# Altium footprint library QFP.PcbLib: 9 footprints
Each footprint in its own frame and in the unit in brackets; x right, y up, seen from the top. Pads: shape width x height; smd on the part's side, far side on the other; paste and mask are expansions set on the pad; w line width, h text height; cw(c..) or ccw(c..) is an arc to the next point about the centre after c.
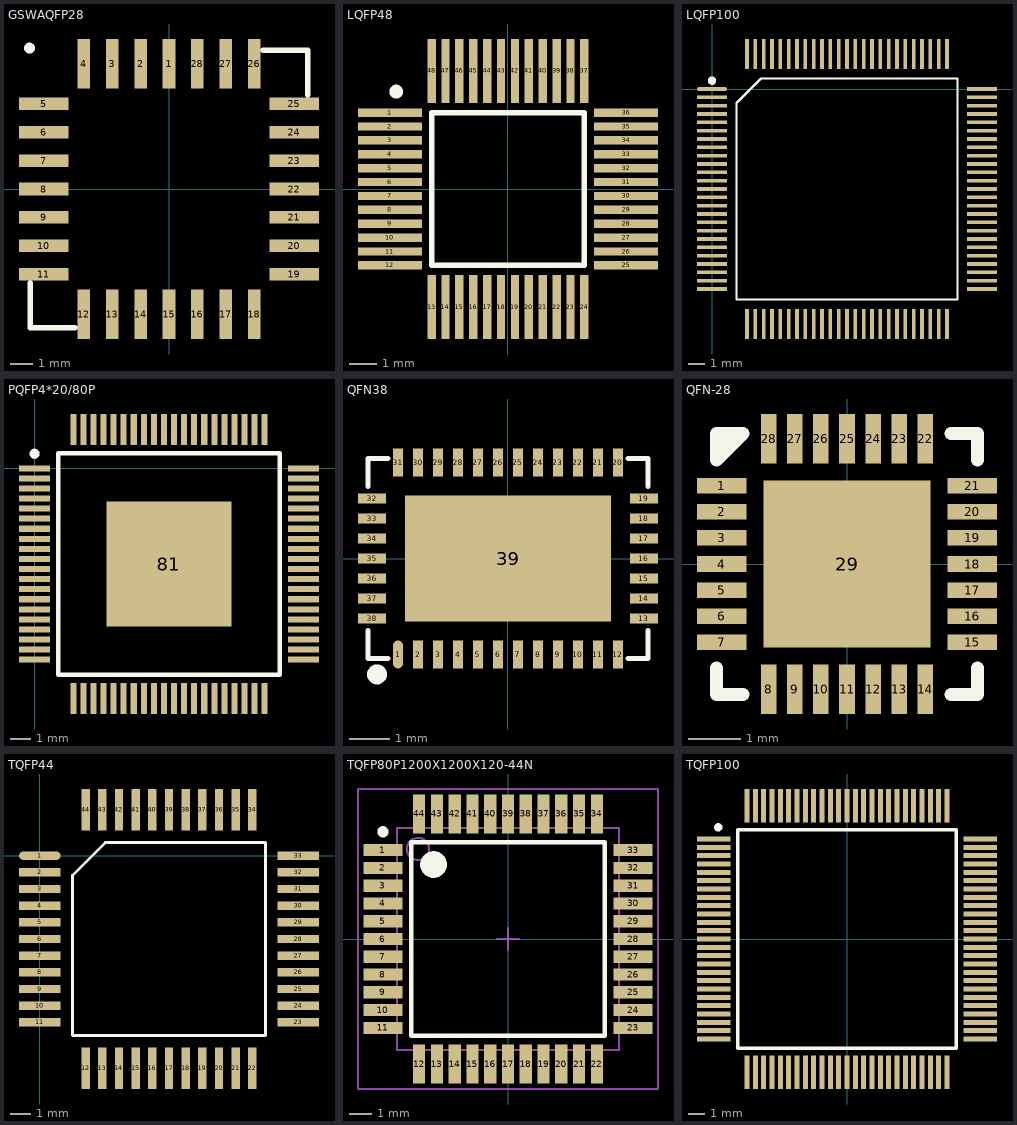
[diagram p0: the footprints below, top view; thin cyan lines are the x and y axes]

## GSWAQFP28 [mm] "FOOTPRINT for GSWA-4-30DR"
height 1.55
pads (28):
  rect 0.56x2.21 smd: 1(0,5.6) 2(-1.27,5.6) 3(-2.54,5.6) 4(-3.81,5.6) 12(-3.81,-5.6) 13(-2.54,-5.6) 14(-1.27,-5.6) 15(0,-5.6) 16(1.27,-5.6) 17(2.54,-5.6) 18(3.81,-5.6) 26(3.81,5.6) 27(2.54,5.6) 28(1.27,5.6)
  rect 2.21x0.56 smd: 5(-5.6,3.81) 6(-5.6,2.54) 7(-5.6,1.27) 8(-5.6,0) 9(-5.6,-1.27) 10(-5.6,-2.54) 11(-5.6,-3.81) 19(5.6,-3.81) 20(5.6,-2.54) 21(5.6,-1.27) 22(5.6,0) 23(5.6,1.27) 24(5.6,2.54) 25(5.6,3.81)
Top Overlay:
  circle w0.254: c-6.235,6.299 r0.114
  lines w0.254: -6.2,-4.2 -6.2,-6.2 -4.2,-6.2 ; 4.2,6.2 6.2,6.2 6.2,4.2

## LQFP48 [mm] "For LM3S308"
height 1.6
pads (48):
  rect 2.3x0.3 smd: 1(-4.25,2.75) 2(-4.25,2.25) 3(-4.25,1.75) 4(-4.25,1.25) 5(-4.25,0.75) 6(-4.25,0.25) 7(-4.25,-0.25) 8(-4.25,-0.75) 9(-4.25,-1.25) 10(-4.25,-1.75) 11(-4.25,-2.25) 12(-4.25,-2.75) 25(4.25,-2.75) 26(4.25,-2.25) 27(4.25,-1.75) 28(4.25,-1.25) 29(4.25,-0.75) 30(4.25,-0.25) 31(4.25,0.25) 32(4.25,0.75) 33(4.25,1.25) 34(4.25,1.75) 35(4.25,2.25) 36(4.25,2.75)
  rect 0.3x2.3 smd: 13(-2.75,-4.25) 14(-2.25,-4.25) 15(-1.75,-4.25) 16(-1.25,-4.25) 17(-0.75,-4.25) 18(-0.25,-4.25) 19(0.25,-4.25) 20(0.75,-4.25) 21(1.25,-4.25) 22(1.75,-4.25) 23(2.25,-4.25) 24(2.75,-4.25) 37(2.75,4.25) 38(2.25,4.25) 39(1.75,4.25) 40(1.25,4.25) 41(0.75,4.25) 42(0.25,4.25) 43(-0.25,4.25) 44(-0.75,4.25) 45(-1.25,4.25) 46(-1.75,4.25) 47(-2.25,4.25) 48(-2.75,4.25)
Top Overlay:
  circle w0.25: c-4.025,3.505 r0.125
  lines w0.2: -2.75,-2.75 2.75,-2.75 2.75,2.75 -2.75,2.75 -2.75,-2.75

## LQFP100 [mm] "For LM3S3739"
height 1.6
pads (100):
  oval 1.8x0.22 smd: 1(0,0)
  rect 1.8x0.22 smd: 2(0,-0.5) 3(0,-1) 4(0,-1.5) 5(0,-2) 6(0,-2.5) 7(0,-3) 8(0,-3.5) 9(0,-4) 10(0,-4.5) 11(0,-5) 12(0,-5.5) 13(0,-6) 14(0,-6.5) 15(0,-7) 16(0,-7.5) 17(0,-8) 18(0,-8.5) 19(0,-9) 20(0,-9.5) 21(0,-10) 22(0,-10.5) 23(0,-11) 24(0,-11.5) 25(0,-12) 51(16.2,-12) 52(16.2,-11.5) 53(16.2,-11) 54(16.2,-10.5) 55(16.2,-10) 56(16.2,-9.5) 57(16.2,-9) 58(16.2,-8.5) 59(16.2,-8) 60(16.2,-7.5) 61(16.2,-7) 62(16.2,-6.5) 63(16.2,-6) 64(16.2,-5.5) 65(16.2,-5) 66(16.2,-4.5) 67(16.2,-4) 68(16.2,-3.5) 69(16.2,-3) 70(16.2,-2.5) 71(16.2,-2) 72(16.2,-1.5) 73(16.2,-1) 74(16.2,-0.5) 75(16.2,0)
  rect 0.22x1.8 smd: 26(2.1,-14.1) 27(2.6,-14.1) 28(3.1,-14.1) 29(3.6,-14.1) 30(4.1,-14.1) 31(4.6,-14.1) 32(5.1,-14.1) 33(5.6,-14.1) 34(6.1,-14.1) 35(6.6,-14.1) 36(7.1,-14.1) 37(7.6,-14.1) 38(8.1,-14.1) 39(8.6,-14.1) 40(9.1,-14.1) 41(9.6,-14.1) 42(10.1,-14.1) 43(10.6,-14.1) 44(11.1,-14.1) 45(11.6,-14.1) 46(12.1,-14.1) 47(12.6,-14.1) 48(13.1,-14.1) 49(13.6,-14.1) 50(14.1,-14.1) 76(14.1,2.1) 77(13.6,2.1) 78(13.1,2.1) 79(12.6,2.1) 80(12.1,2.1) 81(11.6,2.1) 82(11.1,2.1) 83(10.6,2.1) 84(10.1,2.1) 85(9.6,2.1) 86(9.1,2.1) 87(8.6,2.1) 88(8.1,2.1) 89(7.6,2.1) 90(7.1,2.1) 91(6.6,2.1) 92(6.1,2.1) 93(5.6,2.1) 94(5.1,2.1) 95(4.6,2.1) 96(4.1,2.1) 97(3.6,2.1) 98(3.1,2.1) 99(2.6,2.1) 100(2.1,2.1)
Top Overlay:
  circle w0.25: c0,0.5 r0.125
  lines w0.127: 1.471,-12.628 1.471,-0.843 2.943,0.629 14.728,0.629 14.728,-12.628 1.471,-12.628

## PQFP4*20/80P [mm] "FOR TVP5146"
height 0.027
pads (81):
  rect 1.55x0.3 smd: 1(0,0) 2(0,-0.5) 3(0,-1) 4(0,-1.5) 5(0,-2) 6(0,-2.5) 7(0,-3) 8(0,-3.5) 9(0,-4) 10(0,-4.5) 11(0,-5) 12(0,-5.5) 13(0,-6) 14(0,-6.5) 15(0,-7) 16(0,-7.5) 17(0,-8) 18(0,-8.5) 19(0,-9) 20(0,-9.5) 41(13.35,-9.5) 42(13.35,-9) 43(13.35,-8.5) 44(13.35,-8) 45(13.35,-7.5) 46(13.35,-7) 47(13.35,-6.5) 48(13.35,-6) 49(13.35,-5.5) 50(13.35,-5) 51(13.35,-4.5) 52(13.35,-4) 53(13.35,-3.5) 54(13.35,-3) 55(13.35,-2.5) 56(13.35,-2) 57(13.35,-1.5) 58(13.35,-1) 59(13.35,-0.5) 60(13.35,0)
  rect 0.3x1.55 smd: 21(1.925,-11.425) 22(2.425,-11.425) 23(2.925,-11.425) 24(3.425,-11.425) 25(3.925,-11.425) 26(4.425,-11.425) 27(4.925,-11.425) 28(5.425,-11.425) 29(5.925,-11.425) 30(6.425,-11.425) 31(6.925,-11.425) 32(7.425,-11.425) 33(7.925,-11.425) 34(8.425,-11.425) 35(8.925,-11.425) 36(9.425,-11.425) 37(9.925,-11.425) 38(10.425,-11.425) 39(10.925,-11.425) 40(11.425,-11.425) 61(11.425,1.925) 62(10.925,1.925) 63(10.425,1.925) 64(9.925,1.925) 65(9.425,1.925) 66(8.925,1.925) 67(8.425,1.925) 68(7.925,1.925) 69(7.425,1.925) 70(6.925,1.925) 71(6.425,1.925) 72(5.925,1.925) 73(5.425,1.925) 74(4.925,1.925) 75(4.425,1.925) 76(3.925,1.925) 77(3.425,1.925) 78(2.925,1.925) 79(2.425,1.925) 80(1.925,1.925)
  rect 6.2x6.2 smd: 81(6.675,-4.75)
Top Overlay:
  circle w0.25: c0,0.725 r0.125
  lines w0.2: 1.175,-10.25 12.175,-10.25 12.175,0.75 1.175,0.75 1.175,-10.25

## QFN38 [mm] "For LT3507F"
height 0.75
pads (39):
  oval 0.25x0.7 smd: 1(-2.75,-2.4)
  rect 0.25x0.7 smd: 2(-2.25,-2.4) 3(-1.75,-2.4) 4(-1.25,-2.4) 5(-0.75,-2.4) 6(-0.25,-2.4) 7(0.25,-2.4) 8(0.75,-2.4) 9(1.25,-2.4) 10(1.75,-2.4) 11(2.25,-2.4) 12(2.75,-2.4) 20(2.75,2.4) 21(2.25,2.4) 22(1.75,2.4) 23(1.25,2.4) 24(0.75,2.4) 25(0.25,2.4) 26(-0.25,2.4) 27(-0.75,2.4) 28(-1.25,2.4) 29(-1.75,2.4) 30(-2.25,2.4) 31(-2.75,2.4)
  rect 0.7x0.25 smd: 13(3.4,-1.5) 14(3.4,-1) 15(3.4,-0.5) 16(3.4,0) 17(3.4,0.5) 18(3.4,1) 19(3.4,1.5) 32(-3.4,1.5) 33(-3.4,1) 34(-3.4,0.5) 35(-3.4,0) 36(-3.4,-0.5) 37(-3.4,-1) 38(-3.4,-1.5)
  rect 5.15x3.15 smd: 39(0,0)
Top Overlay:
  circle w0.25: c-3.275,-2.896 r0.125
  lines w0.127: -3.5,-1.8 -3.5,-2.5 -3,-2.5 ; -3.5,1.8 -3.5,2.5 -3,2.5 ; 3,-2.5 3.5,-2.5 3.5,-1.8 ; 3,2.5 3.5,2.5 3.5,1.8

## QFN-28 [mm]
height 0.9
pads (29):
  rect 0.95x0.3 smd: 1(-2.4,1.5) 2(-2.4,1) 3(-2.4,0.5) 4(-2.4,0) 5(-2.4,-0.5) 6(-2.4,-1) 7(-2.4,-1.5) 15(2.4,-1.5) 16(2.4,-1) 17(2.4,-0.5) 18(2.4,0) 19(2.4,0.5) 20(2.4,1) 21(2.4,1.5)
  rect 0.3x0.95 smd: 8(-1.5,-2.4) 9(-1,-2.4) 10(-0.5,-2.4) 11(0,-2.4) 12(0.5,-2.4) 13(1,-2.4) 14(1.5,-2.4) 22(1.5,2.4) 23(1,2.4) 24(0.5,2.4) 25(0,2.4) 26(-0.5,2.4) 27(-1,2.4) 28(-1.5,2.4)
  rect 3.2x3.2 smd: 29(0,0)
Top Overlay:
  lines w0.254: -2.5,-2 -2.5,-2.5 -2,-2.5 ; -2.286,2.286 -2.286,2.5 ; 2,-2.5 2.5,-2.5 2.5,-2 ; 2,2.5 2.5,2.5 2.5,2 ; -2.5,2 -2,2.5 -2.5,2.5 -2.5,2

## TQFP44 [mm] "For SOT376-1 NXP"
height 1.2
pads (44):
  oval 2x0.4 smd: 1(0,0)
  rect 2x0.4 smd: 2(0,-0.8) 3(0,-1.6) 4(0,-2.4) 5(0,-3.2) 6(0,-4) 7(0,-4.8) 8(0,-5.6) 9(0,-6.4) 10(0,-7.2) 11(0,-8) 23(12.4,-8) 24(12.4,-7.2) 25(12.4,-6.4) 26(12.4,-5.6) 27(12.4,-4.8) 28(12.4,-4) 29(12.4,-3.2) 30(12.4,-2.4) 31(12.4,-1.6) 32(12.4,-0.8) 33(12.4,0)
  rect 0.4x2 smd: 12(2.2,-10.2) 13(3,-10.2) 14(3.8,-10.2) 15(4.6,-10.2) 16(5.4,-10.2) 17(6.2,-10.2) 18(7,-10.2) 19(7.8,-10.2) 20(8.6,-10.2) 21(9.4,-10.2) 22(10.2,-10.2) 34(10.2,2.2) 35(9.4,2.2) 36(8.6,2.2) 37(7.8,2.2) 38(7,2.2) 39(6.2,2.2) 40(5.4,2.2) 41(4.6,2.2) 42(3.8,2.2) 43(3,2.2) 44(2.2,2.2)
Top Overlay:
  lines w0.127: 1.572,-8.629 10.829,-8.629 10.829,0.629 3.143,0.629 1.572,-0.943 1.572,-8.629

## TQFP80P1200X1200X120-44N [mm] "TQFP, 44-Leads, Body 12.3x12.3mm (max), Pitch 0.80mm, IPC Medium Density"
height 1.2
pads (44):
  rect 1.75x0.55 smd: 1(-5.625,4) 2(-5.625,3.2) 3(-5.625,2.4) 4(-5.625,1.6) 5(-5.625,0.8) 6(-5.625,0) 7(-5.625,-0.8) 8(-5.625,-1.6) 9(-5.625,-2.4) 10(-5.625,-3.2) 11(-5.625,-4) 23(5.625,-4) 24(5.625,-3.2) 25(5.625,-2.4) 26(5.625,-1.6) 27(5.625,-0.8) 28(5.625,0) 29(5.625,0.8) 30(5.625,1.6) 31(5.625,2.4) 32(5.625,3.2) 33(5.625,4)
  rect 0.55x1.75 smd: 12(-4,-5.625) 13(-3.2,-5.625) 14(-2.4,-5.625) 15(-1.6,-5.625) 16(-0.8,-5.625) 17(0,-5.625) 18(0.8,-5.625) 19(1.6,-5.625) 20(2.4,-5.625) 21(3.2,-5.625) 22(4,-5.625) 34(4,5.625) 35(3.2,5.625) 36(2.4,5.625) 37(1.6,5.625) 38(0.8,5.625) 39(0,5.625) 40(-0.8,5.625) 41(-1.6,5.625) 42(-2.4,5.625) 43(-3.2,5.625) 44(-4,5.625)
Top Overlay:
  circle w0.6: c-3.35,3.35 r0.3
  circle w0.25: c-5.625,4.825 r0.125
  lines w0.2: -4.35,-4.35 4.35,-4.35 4.35,4.35 -4.35,4.35 -4.35,-4.35
Mechanical 13:
  circle w0.1: c-4.05,4.05 r0.5
  lines w0.1: -5,-5 5,-5 5,5 -5,5 -5,-5
Mechanical 15:
  lines w0.1: -0.5,0 0.5,0 ; 0,-0.5 0,0.5 ; -6.75,-6.75 6.75,-6.75 6.75,6.75 -6.75,6.75 -6.75,-6.75
3D body: height 1.2, standoff 0.15, extent -5,-5 5,5

## TQFP100 [mm] "FOR EP240"
height 1.2
pads (100):
  rect 2x0.3 smd: 1(-8,6) 2(-8,5.5) 3(-8,5) 4(-8,4.5) 5(-8,4) 6(-8,3.5) 7(-8,3) 8(-8,2.5) 9(-8,2) 10(-8,1.5) 11(-8,1) 12(-8,0.5) 13(-8,0) 14(-8,-0.5) 15(-8,-1) 16(-8,-1.5) 17(-8,-2) 18(-8,-2.5) 19(-8,-3) 20(-8,-3.5) 21(-8,-4) 22(-8,-4.5) 23(-8,-5) 24(-8,-5.5) 25(-8,-6) 51(8,-6) 52(8,-5.5) 53(8,-5) 54(8,-4.5) 55(8,-4) 56(8,-3.5) 57(8,-3) 58(8,-2.5) 59(8,-2) 60(8,-1.5) 61(8,-1) 62(8,-0.5) 63(8,0) 64(8,0.5) 65(8,1) 66(8,1.5) 67(8,2) 68(8,2.5) 69(8,3) 70(8,3.5) 71(8,4) 72(8,4.5) 73(8,5) 74(8,5.5) 75(8,6)
  rect 0.3x2 smd: 26(-6,-8) 27(-5.5,-8) 28(-5,-8) 29(-4.5,-8) 30(-4,-8) 31(-3.5,-8) 32(-3,-8) 33(-2.5,-8) 34(-2,-8) 35(-1.5,-8) 36(-1,-8) 37(-0.5,-8) 38(0,-8) 39(0.5,-8) 40(1,-8) 41(1.5,-8) 42(2,-8) 43(2.5,-8) 44(3,-8) 45(3.5,-8) 46(4,-8) 47(4.5,-8) 48(5,-8) 49(5.5,-8) 50(6,-8) 76(6,8) 77(5.5,8) 78(5,8) 79(4.5,8) 80(4,8) 81(3.5,8) 82(3,8) 83(2.5,8) 84(2,8) 85(1.5,8) 86(1,8) 87(0.5,8) 88(0,8) 89(-0.5,8) 90(-1,8) 91(-1.5,8) 92(-2,8) 93(-2.5,8) 94(-3,8) 95(-3.5,8) 96(-4,8) 97(-4.5,8) 98(-5,8) 99(-5.5,8) 100(-6,8)
Top Overlay:
  circle w0.25: c-7.725,6.7 r0.125
  lines w0.2: -6.55,-6.55 6.55,-6.55 6.55,6.55 -6.55,6.55 -6.55,-6.55